# EAGLE library part KEMET-EC2-3NU (library AL-Relays)
KEMET EC2 Miniature signal relays https://content.kemet.com/datasheets/KEM_R7002_EC2_EE2.pdf
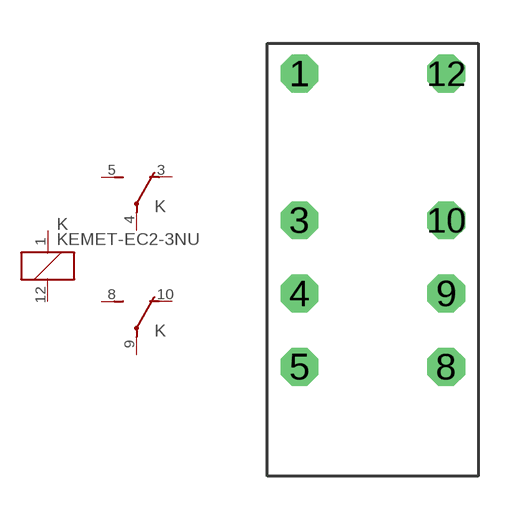
[diagram p0: symbol with the pads of KEMET-EC2-3NU; footprint KEMET-EC2-3NU]

Designator prefix K; gates G$1=K G$2=U G$3=U

## KEMET-EC2-3NU  [KEMET-EC2-3NU]
1  G$1:1  pas
3  G$2:NC  pas
4  G$2:C  pas
5  G$2:NO  pas
8  G$3:NO  pas
9  G$3:C  pas
10  G$3:NC  pas
12  G$1:2  pas

## Footprint KEMET-EC2-3NU (pad centres in mm)
KEMET EC2 Miniature signal relays https://content.kemet.com/datasheets/KEM_R7002_EC2_EE2.pdf
drill 0.8 octagon: 1 -2.54,7.62; 3 -2.54,2.54; 4 -2.54,0; 5 -2.54,-2.54; 8 2.54,-2.54; 9 2.54,0; 10 2.54,2.54; 12 2.54,7.62